# Altium footprint library Capasitors_SMD_other.PcbLib: 9 footprints
Each footprint in its own frame and in the unit in brackets; x right, y up, seen from the top. Pads: shape width x height; smd on the part's side, far side on the other; paste and mask are expansions set on the pad; w line width, h text height; cw(c..) or ccw(c..) is an arc to the next point about the centre after c.
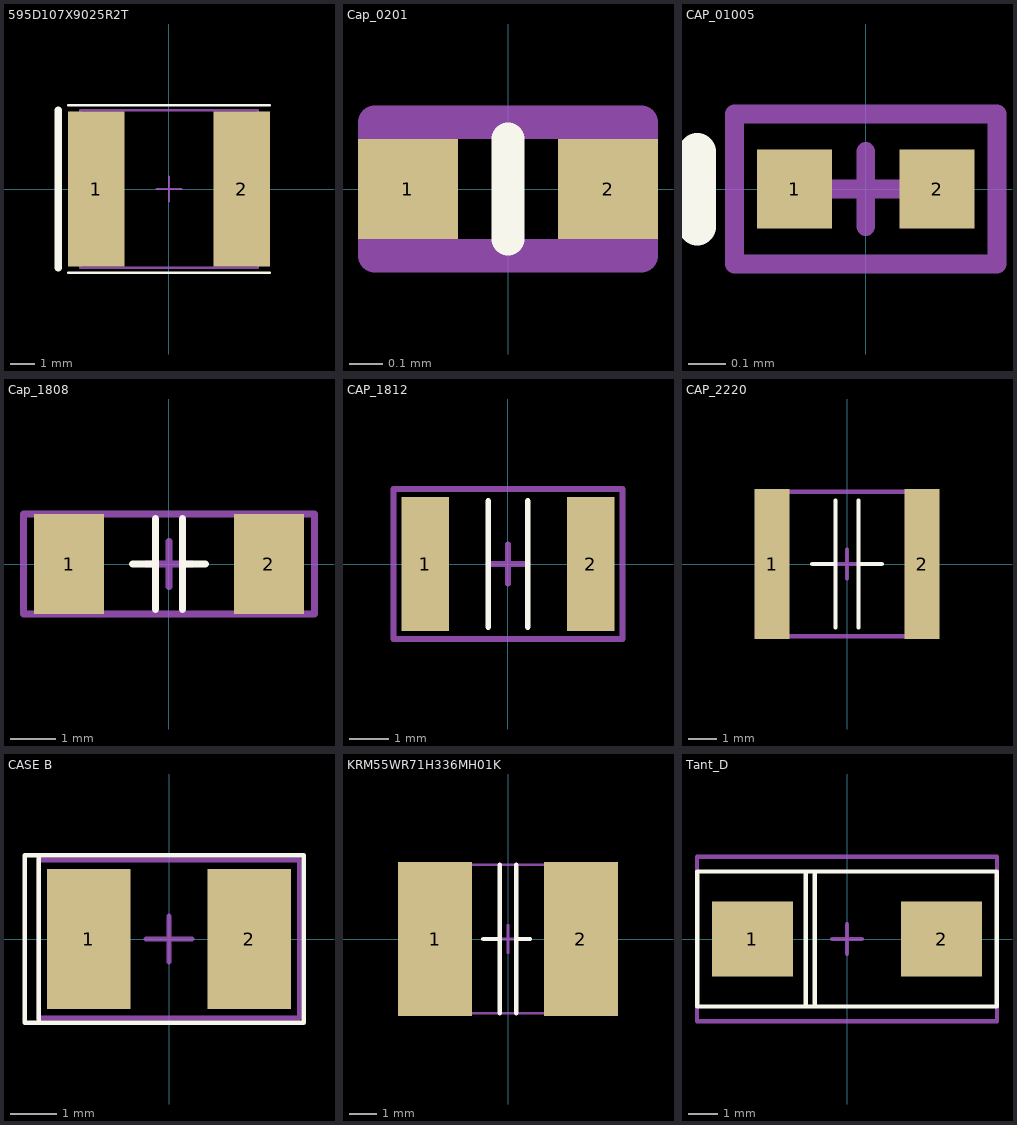
[diagram p0: the footprints below, top view; thin cyan lines are the x and y axes]

## 595D107X9025R2T [mm]
pads (2):
  rect 2.3x6.3 smd: 1(-2.95,0) 2(2.95,0)
Top Overlay:
  lines w0.1: -4.1,-3.4 4.1,-3.4 ; -4.1,3.4 4.1,3.4
  lines w0.3: -4.5,-3.2 -4.5,3.2
Mechanical 13:
  lines w0.1: -0.5,0 0.5,0 ; 0,-0.5 0,0.5 ; -3.6,-3.2 -3.6,3.2 3.6,3.2 3.6,-3.2 -3.6,-3.2
3D body "User Library-595D-R_SW.step": height 3.5, standoff 0, extent -3.9,-3 3.3,3

## Cap_0201 [mm]
pads (2):
  rect 0.3x0.3 smd: 1(-0.3,0) 2(0.3,0)
Top Overlay:
  lines w0.1: 0,-0.15 0,0.15
Mechanical 15:
  lines w0.1: -0.4,-0.2 -0.4,0.2 0.4,0.2 0.4,-0.2 -0.4,-0.2
3D body "User Library-User Library-0201_Cap.step": height 0.31, standoff 0, extent -0.44,-0.15 0.44,0.15

## CAP_01005 [mm]
pads (2):
  rect 0.2x0.21 smd mask+0.04: 1(-0.19,0) 2(0.19,0)
Top Overlay:
  lines w0.1: -0.45,-0.1 -0.45,0.1
Mechanical 15:
  lines w0.05: -0.1,0 0.1,0 ; 0,-0.1 0,0.1 ; -0.35,-0.2 -0.35,0.2 0.35,0.2 0.35,-0.2 -0.35,-0.2
3D body "User Library-01005_capacitor-NPO.step": height 0.22, standoff 0, extent -0.2,-0.1 0.2,0.1

## Cap_1808 [mm]
height 2.2
pads (2):
  rect 1.55x2.2 smd: 1(-2.2,0) 2(2.2,0)
Top Overlay:
  lines w0.15: -0.8,0 -0.3,0 ; -0.3,-1 -0.3,1 ; 0.3,-1 0.3,1 ; 0.3,0 0.8,0
Mechanical 13:
  lines w0.15: -0.5,0 0.5,0 ; 0,-0.5 0,0.5 ; -3.2,-1.1 -3.2,1.1 3.2,1.1 3.2,-1.1 -3.2,-1.1
3D body "User Library-Chip Cap_MLCC_1808 (4520)_K.step": height 2, standoff 0, extent -2.25,-1 2.25,1.03

## CAP_1812 [mm]
pads (2):
  rect 1.2x3.4 smd: 1(-2.1,0) 2(2.1,0)
Top Overlay:
  lines w0.15: -0.5,-1.6 -0.5,1.6 ; 0.5,-1.6 0.5,1.6
Mechanical 13:
  lines w0.15: -0.5,0 0.5,0 ; 0,-0.5 0,0.5 ; -2.9,-1.9 -2.9,1.9 2.9,1.9 2.9,-1.9 -2.9,-1.9
3D body "User Library-1812 SMD Capacitor.step": height 1.6, standoff 0, extent -2.25,-1.6 2.25,1.6

## CAP_2220 [mm]
height 2.5
pads (2):
  rect 1.2x5.2 smd: 1(-2.6,0) 2(2.6,0)
Top Overlay:
  lines w0.15: -1.2,0 -0.4,0 ; -0.4,-2.2 -0.4,2.2 ; 0.4,-2.2 0.4,2.2 ; 0.4,0 1.2,0
Mechanical 13:
  lines w0.15: -0.5,0 0.5,0 ; 0,-0.5 0,0.5 ; -2.85,-2.5 -2.85,2.5 2.85,2.5 2.85,-2.5 -2.85,-2.5
3D body "User Library-CAPC5750.step": height 2.5, standoff 0, extent -2.85,-2.5 2.85,2.5

## CASE B [mm]
pads (2):
  rect 1.8x3 smd: 1(-1.725,0) 2(1.725,0)
Top Overlay:
  lines w0.1: -2.8,-1.8 -3.1,-1.8 -3.1,1.8 -2.8,1.8 ; -2.8,-1.8 -2.8,1.8 ; -2.8,-1.8 2.9,-1.8 2.9,1.8 -2.8,1.8
Mechanical 13:
  lines w0.1: -0.5,0 0.5,0 ; 0,-0.5 0,0.5 ; -2.8,-1.7 2.8,-1.7 2.8,1.7 -2.8,1.7 -2.8,-1.7
3D body "User Library-CaseB_3528-21.step": height 1.9, standoff 0, extent -1.75,-1.4 1.75,1.4

## KRM55WR71H336MH01K [mm]
height 4.8
pads (2):
  rect 2.7x5.6 smd: 1(-2.65,0) 2(2.65,0)
Top Overlay:
  lines w0.15: -0.9,0 -0.3,0 ; -0.3,-2.7 -0.3,2.7 ; 0.3,-2.7 0.3,2.7 ; 0.3,0 0.8,0
Mechanical 13:
  lines w0.1: -0.5,0 0.5,0 ; 0,-0.5 0,0.5 ; -3.2,-2.7 -3.2,2.7 3.2,2.7 3.2,-2.7 -3.2,-2.7
3D body "User Library-KMR55_murata v2.step": height 6.6, standoff 0, extent -3.24,-2.65 3.197,2.658

## Tant_D [mm]
pads (2):
  rect 2.77x2.55 smd: 1(-3.22,0) 2(3.22,0)
Top Overlay:
  lines w0.15: -1.5,2.3 -5.1,2.3 ; -1.4,-2.3 -1.4,2.3 ; -1.1,-2.3 -1.1,2.3 ; -5.1,2.3 -5.1,-2.3 5.1,-2.3 5.1,2.3 -5.1,2.3
Mechanical 13:
  lines w0.15: -0.5,0 0.5,0 ; 0,-0.5 0,0.5 ; -5.11,-2.8 -5.11,2.8 5.11,2.8 5.11,-2.8 -5.11,-2.8
3D body "t494d476k016at.stp": height 3.11, standoff 0.01, extent -3.8,-2.3 3.8,2.3